# Altium schematic symbol library ADM2587E.SchLib: 1 symbol
Pins are listed as number, name and electrical type; pins without a type are passive.

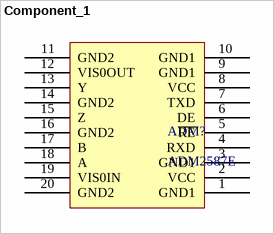
[diagram p0: symbol Component_1]

## Component_1
designator ADM?, comment ADM2587E
pins: 1 GND1, 2 VCC, 3 GND1, 4 RXD, 5 ~{RE}, 6 DE, 7 TXD, 8 VCC, 9 GND1, 10 GND1, 11 GND2, 12 VIS0OUT, 13 Y, 14 GND2, 15 Z, 16 GND2, 17 B, 18 A, 19 VIS0IN, 20 GND2